# EAGLE library part EPIC-USB_A (library berkeley-epic)
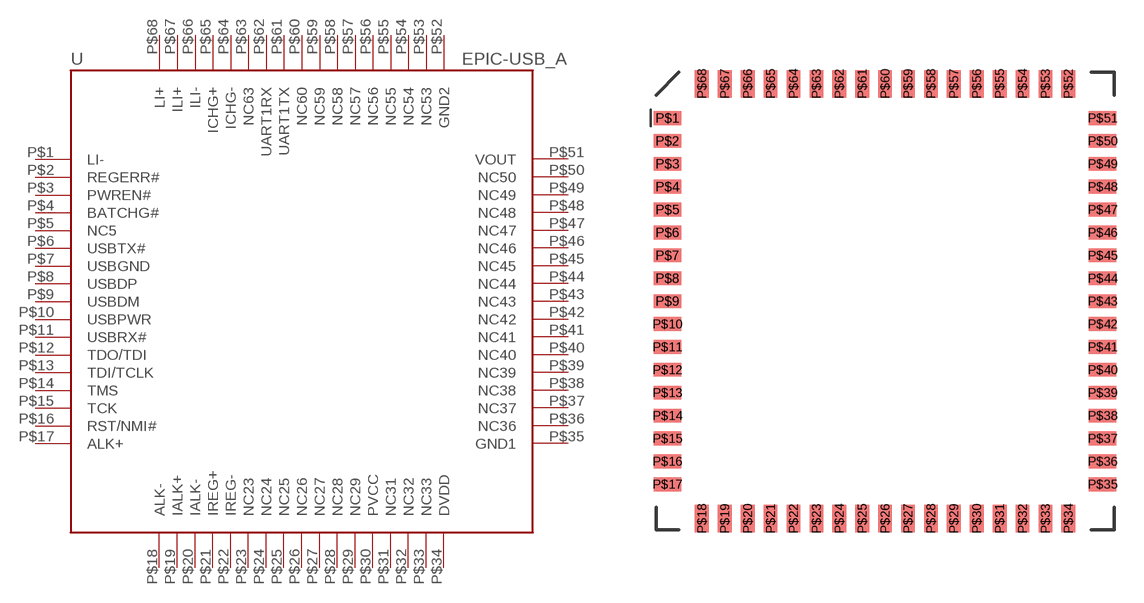
[diagram p2: symbol with the pads of EPIC-LCC68; footprint EPIC-LCC68]

Designator prefix U

## EPIC-USB_A  [EPIC-LCC68]
P$1  LI-
P$2  REGERR#
P$3  PWREN#
P$4  BATCHG#
P$5  NC5
P$6  USBTX#
P$7  USBGND
P$8  USBDP
P$9  USBDM
P$10  USBPWR
P$11  USBRX#
P$12  TDO/TDI
P$13  TDI/TCLK
P$14  TMS
P$15  TCK
P$16  RST/NMI#
P$17  ALK+
P$18  ALK-
P$19  IALK+
P$20  IALK-
P$21  IREG+
P$22  IREG-
P$23  NC23
P$24  NC24
P$25  NC25
P$26  NC26
P$27  NC27
P$28  NC28
P$29  NC29
P$30  PVCC
P$31  NC31
P$32  NC32
P$33  NC33
P$34  DVDD
P$35  GND1
P$36  NC36
P$37  NC37
P$38  NC38
P$39  NC39
P$40  NC40
P$41  NC41
P$42  NC42
P$43  NC43
P$44  NC44
P$45  NC45
P$46  NC46
P$47  NC47
P$48  NC48
P$49  NC49
P$50  NC50
P$51  VOUT
P$52  GND2
P$53  NC53
P$54  NC54
P$55  NC55
P$56  NC56
P$57  NC57
P$58  NC58
P$59  NC59
P$60  NC60
P$61  UART1TX
P$62  UART1RX
P$63  NC63
P$64  ICHG-
P$65  ICHG+
P$66  ILI-
P$67  ILI+
P$68  LI+

## Footprint EPIC-LCC68 (pad centres in mm)
smd 1.524 x 0.762: P$1 -12.065,10.16; P$2 -12.065,8.89; P$3 -12.065,7.62; P$4 -12.065,6.35; P$5 -12.065,5.08; P$6 -12.065,3.81; P$7 -12.065,2.54; P$8 -12.065,1.27; P$9 -12.065,0; P$10 -12.065,-1.27; P$11 -12.065,-2.54; P$12 -12.065,-3.81; P$13 -12.065,-5.08; P$14 -12.065,-6.35; P$15 -12.065,-7.62; P$16 -12.065,-8.89; P$17 -12.065,-10.16; P$35 12.065,-10.16; P$36 12.065,-8.89; P$37 12.065,-7.62; P$38 12.065,-6.35; P$39 12.065,-5.08; P$40 12.065,-3.81; P$41 12.065,-2.54; P$42 12.065,-1.27; P$43 12.065,0; P$44 12.065,1.27; P$45 12.065,2.54; P$46 12.065,3.81; P$47 12.065,5.08; P$48 12.065,6.35; P$49 12.065,7.62; P$50 12.065,8.89; P$51 12.065,10.16
smd 0.762 x 1.524: P$18 -10.16,-12.065; P$19 -8.89,-12.065; P$20 -7.62,-12.065; P$21 -6.35,-12.065; P$22 -5.08,-12.065; P$23 -3.81,-12.065; P$24 -2.54,-12.065; P$25 -1.27,-12.065; P$26 0,-12.065; P$27 1.27,-12.065; P$28 2.54,-12.065; P$29 3.81,-12.065; P$30 5.08,-12.065; P$31 6.35,-12.065; P$32 7.62,-12.065; P$33 8.89,-12.065; P$34 10.16,-12.065; P$52 10.16,12.065; P$53 8.89,12.065; P$54 7.62,12.065; P$55 6.35,12.065; P$56 5.08,12.065; P$57 3.81,12.065; P$58 2.54,12.065; P$59 1.27,12.065; P$60 0,12.065; P$61 -1.27,12.065; P$62 -2.54,12.065; P$63 -3.81,12.065; P$64 -5.08,12.065; P$65 -6.35,12.065; P$66 -7.62,12.065; P$67 -8.89,12.065; P$68 -10.16,12.065